# Altium footprint library Connector_Phoenix_GMSTB.PcbLib: 88 footprints (part 4 of 6)
Each footprint in its own frame and in the unit in brackets; x right, y up, seen from the top. Pads: shape width x height; smd on the part's side, far side on the other; paste and mask are expansions set on the pad; w line width, h text height; cw(c..) or ccw(c..) is an arc to the next point about the centre after c.
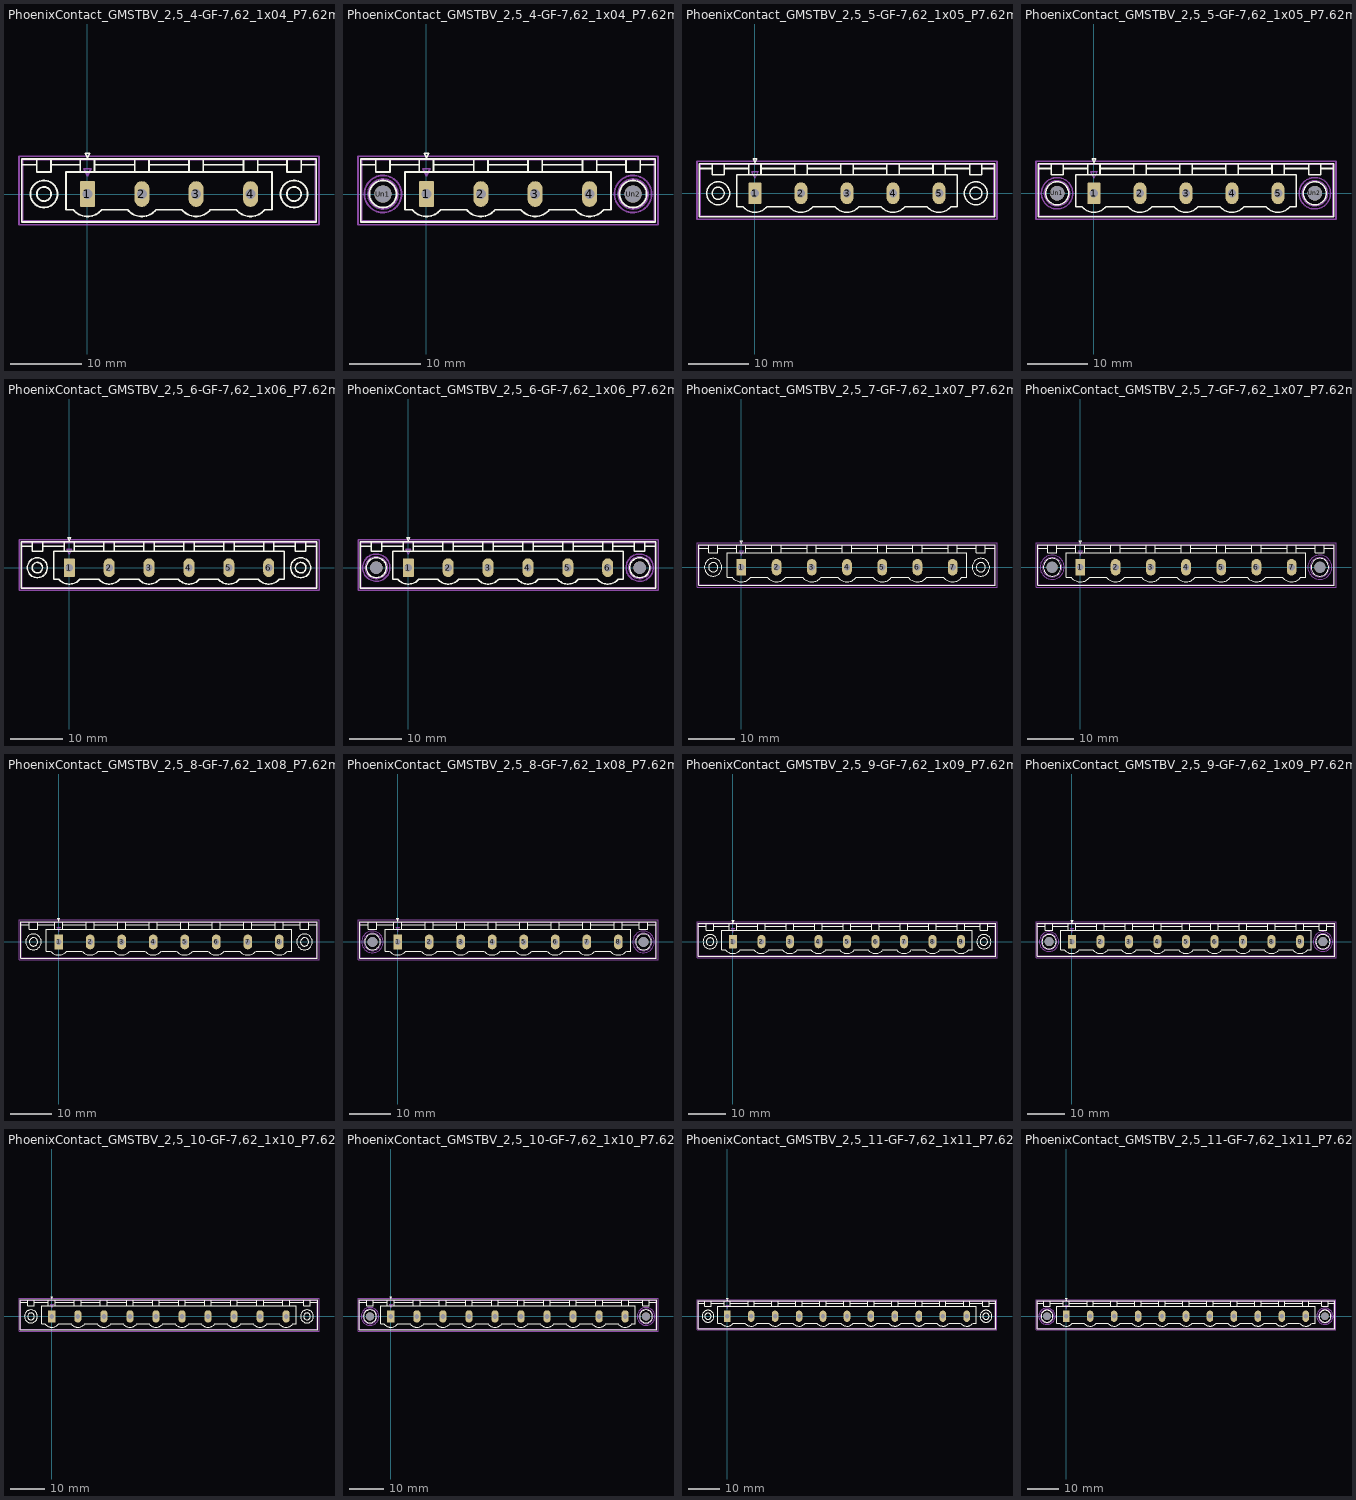
[diagram p3: the footprints below, top view; thin cyan lines are the x and y axes]

## PhoenixContact_GMSTBV_2,5_4-GF-7,62_1x04_P7.62mm_Vertical_ThreadedFlange [mm]
pads (4):
  rrect12% 2.1x3.6 hole 1.4: 1(0,0)
  rrect100% 2.1x3.6 hole 1.4: 2(7.62,0) 3(15.24,0) 4(22.86,0)
F.SilkS:
  circle w0.254: c28.96,0 r1.9
  circle w0.254: c28.96,0 r1
  circle w0.254: c-6.1,0 r1.9
  circle w0.254: c-6.1,0 r1
  lines w0.254: -9.21,4.1 -7.21,4.1 ; -5.1,4.1 -1,4.1 ; 1,4.1 6.62,4.1 ; 1.987,-2.216 cw(c0,-0.55) -2,-2.2 -3.01,-2.2 -3.01,3.1 25.87,3.1 25.87,-2.2 24.86,-2.2 ; 2,-2.2 5.62,-2.2 ccw(c7.62,-0.55) 9.607,-2.216 ; 8.62,4.1 14.24,4.1 ; 9.62,-2.2 13.24,-2.2 ccw(c15.24,-0.55) 17.227,-2.216 ; 16.24,4.1 21.86,4.1 ; 17.24,-2.2 20.86,-2.2 ccw(c22.86,-0.55) 24.847,-2.216 ; 23.86,4.1 27.96,4.1 ; 30.07,4.1 32.07,4.1 ; -9.21,-3.91 32.07,-3.91 32.07,4.91 -9.21,4.91 -9.21,-3.91 ; -7.1,3.1 -5.1,3.1 -5.1,4.91 -7.1,4.91 -7.1,3.1 ; -1,3.1 1,3.1 1,4.91 -1,4.91 -1,3.1 ; -0.3,5.71 0,5.11 0.3,5.71 -0.3,5.71 ; 6.62,3.1 8.62,3.1 8.62,4.91 6.62,4.91 6.62,3.1 ; 14.24,3.1 16.24,3.1 16.24,4.91 14.24,4.91 14.24,3.1 ; 21.86,3.1 23.86,3.1 23.86,4.91 21.86,4.91 21.86,3.1 ; 27.96,3.1 29.96,3.1 29.96,4.91 27.96,4.91 27.96,3.1
Top Assembly:
  lines w0.254: -9.1,-3.8 31.96,-3.8 31.96,4.8 -9.1,4.8 -9.1,-3.8 ; -0.5,3.55 0,2.55 0.5,3.55 -0.5,3.55
  text "'.Designator'" at 7.383,3.26 h1
Top Courtyard:
  lines w0.254: -9.6,-4.3 32.46,-4.3 32.46,5.3 -9.6,5.3 -9.6,-4.3
Top Designator:
  text ".Designator" at 3.812,0.197 h1.52

## PhoenixContact_GMSTBV_2,5_4-GF-7,62_1x04_P7.62mm_Vertical_ThreadedFlange_MountHole [mm]
pads (6):
  rrect12% 2.1x3.6 hole 1.4: 1(0,0)
  rrect100% 2.1x3.6 hole 1.4: 2(7.62,0) 3(15.24,0) 4(22.86,0)
  round 2.4 hole 2.4: Un1(-6.1,0) Un2(28.96,0)
F.SilkS:
  circle w0.254: c28.96,0 r1.9
  circle w0.254: c-6.1,0 r1.9
  lines w0.254: -9.21,4.1 -7.21,4.1 ; -5.1,4.1 -1,4.1 ; 1,4.1 6.62,4.1 ; 1.987,-2.216 cw(c0,-0.55) -2,-2.2 -3.01,-2.2 -3.01,3.1 25.87,3.1 25.87,-2.2 24.86,-2.2 ; 2,-2.2 5.62,-2.2 ccw(c7.62,-0.55) 9.607,-2.216 ; 8.62,4.1 14.24,4.1 ; 9.62,-2.2 13.24,-2.2 ccw(c15.24,-0.55) 17.227,-2.216 ; 16.24,4.1 21.86,4.1 ; 17.24,-2.2 20.86,-2.2 ccw(c22.86,-0.55) 24.847,-2.216 ; 23.86,4.1 27.96,4.1 ; 30.07,4.1 32.07,4.1 ; -9.21,-3.91 32.07,-3.91 32.07,4.91 -9.21,4.91 -9.21,-3.91 ; -7.1,3.1 -5.1,3.1 -5.1,4.91 -7.1,4.91 -7.1,3.1 ; -1,3.1 1,3.1 1,4.91 -1,4.91 -1,3.1 ; -0.3,5.71 0,5.11 0.3,5.71 -0.3,5.71 ; 6.62,3.1 8.62,3.1 8.62,4.91 6.62,4.91 6.62,3.1 ; 14.24,3.1 16.24,3.1 16.24,4.91 14.24,4.91 14.24,3.1 ; 21.86,3.1 23.86,3.1 23.86,4.91 21.86,4.91 21.86,3.1 ; 27.96,3.1 29.96,3.1 29.96,4.91 27.96,4.91 27.96,3.1
B.SilkS:
  circle w0.254: c28.96,0 r2.21
  circle w0.254: c-6.1,0 r2.21
Top Assembly:
  lines w0.254: -9.1,-3.8 31.96,-3.8 31.96,4.8 -9.1,4.8 -9.1,-3.8 ; -0.5,3.55 0,2.55 0.5,3.55 -0.5,3.55
  text "'.Designator'" at 7.383,3.26 h1
Bottom Assembly:
  circle w0.254: c28.96,0 r2.1
  circle w0.254: c-6.1,0 r2.1
Top Courtyard:
  lines w0.254: -9.6,-4.3 32.46,-4.3 32.46,5.3 -9.6,5.3 -9.6,-4.3
Bottom Courtyard:
  circle w0.254: c28.96,0 r2.6
  circle w0.254: c-6.1,0 r2.6
Top Designator:
  text ".Designator" at 3.812,0.197 h1.52

## PhoenixContact_GMSTBV_2,5_5-GF-7,62_1x05_P7.62mm_Vertical_ThreadedFlange [mm]
pads (5):
  rrect12% 2.1x3.6 hole 1.4: 1(0,0)
  rrect100% 2.1x3.6 hole 1.4: 2(7.62,0) 3(15.24,0) 4(22.86,0) 5(30.48,0)
F.SilkS:
  circle w0.254: c36.58,0 r1.9
  circle w0.254: c36.58,0 r1
  circle w0.254: c-6.1,0 r1.9
  circle w0.254: c-6.1,0 r1
  lines w0.254: -9.21,4.1 -7.21,4.1 ; -5.1,4.1 -1,4.1 ; 1,4.1 6.62,4.1 ; 1.987,-2.216 cw(c0,-0.55) -2,-2.2 -3.01,-2.2 -3.01,3.1 33.49,3.1 33.49,-2.2 32.48,-2.2 ; 2,-2.2 5.62,-2.2 ccw(c7.62,-0.55) 9.607,-2.216 ; 8.62,4.1 14.24,4.1 ; 9.62,-2.2 13.24,-2.2 ccw(c15.24,-0.55) 17.227,-2.216 ; 16.24,4.1 21.86,4.1 ; 17.24,-2.2 20.86,-2.2 ccw(c22.86,-0.55) 24.847,-2.216 ; 23.86,4.1 29.48,4.1 ; 24.86,-2.2 28.48,-2.2 ccw(c30.48,-0.55) 32.467,-2.216 ; 31.48,4.1 35.58,4.1 ; 37.69,4.1 39.69,4.1 ; -9.21,-3.91 39.69,-3.91 39.69,4.91 -9.21,4.91 -9.21,-3.91 ; -7.1,3.1 -5.1,3.1 -5.1,4.91 -7.1,4.91 -7.1,3.1 ; -1,3.1 1,3.1 1,4.91 -1,4.91 -1,3.1 ; -0.3,5.71 0,5.11 0.3,5.71 -0.3,5.71 ; 6.62,3.1 8.62,3.1 8.62,4.91 6.62,4.91 6.62,3.1 ; 14.24,3.1 16.24,3.1 16.24,4.91 14.24,4.91 14.24,3.1 ; 21.86,3.1 23.86,3.1 23.86,4.91 21.86,4.91 21.86,3.1 ; 29.48,3.1 31.48,3.1 31.48,4.91 29.48,4.91 29.48,3.1 ; 35.58,3.1 37.58,3.1 37.58,4.91 35.58,4.91 35.58,3.1
Top Assembly:
  lines w0.254: -9.1,-3.8 39.58,-3.8 39.58,4.8 -9.1,4.8 -9.1,-3.8 ; -0.5,3.55 0,2.55 0.5,3.55 -0.5,3.55
  text "'.Designator'" at 11.193,3.26 h1
Top Courtyard:
  lines w0.254: -9.6,-4.3 40.08,-4.3 40.08,5.3 -9.6,5.3 -9.6,-4.3
Top Designator:
  text ".Designator" at 7.622,0.197 h1.52

## PhoenixContact_GMSTBV_2,5_5-GF-7,62_1x05_P7.62mm_Vertical_ThreadedFlange_MountHole [mm]
pads (7):
  rrect12% 2.1x3.6 hole 1.4: 1(0,0)
  rrect100% 2.1x3.6 hole 1.4: 2(7.62,0) 3(15.24,0) 4(22.86,0) 5(30.48,0)
  round 2.4 hole 2.4: Un1(-6.1,0) Un2(36.58,0)
F.SilkS:
  circle w0.254: c36.58,0 r1.9
  circle w0.254: c-6.1,0 r1.9
  lines w0.254: -9.21,4.1 -7.21,4.1 ; -5.1,4.1 -1,4.1 ; 1,4.1 6.62,4.1 ; 1.987,-2.216 cw(c0,-0.55) -2,-2.2 -3.01,-2.2 -3.01,3.1 33.49,3.1 33.49,-2.2 32.48,-2.2 ; 2,-2.2 5.62,-2.2 ccw(c7.62,-0.55) 9.607,-2.216 ; 8.62,4.1 14.24,4.1 ; 9.62,-2.2 13.24,-2.2 ccw(c15.24,-0.55) 17.227,-2.216 ; 16.24,4.1 21.86,4.1 ; 17.24,-2.2 20.86,-2.2 ccw(c22.86,-0.55) 24.847,-2.216 ; 23.86,4.1 29.48,4.1 ; 24.86,-2.2 28.48,-2.2 ccw(c30.48,-0.55) 32.467,-2.216 ; 31.48,4.1 35.58,4.1 ; 37.69,4.1 39.69,4.1 ; -9.21,-3.91 39.69,-3.91 39.69,4.91 -9.21,4.91 -9.21,-3.91 ; -7.1,3.1 -5.1,3.1 -5.1,4.91 -7.1,4.91 -7.1,3.1 ; -1,3.1 1,3.1 1,4.91 -1,4.91 -1,3.1 ; -0.3,5.71 0,5.11 0.3,5.71 -0.3,5.71 ; 6.62,3.1 8.62,3.1 8.62,4.91 6.62,4.91 6.62,3.1 ; 14.24,3.1 16.24,3.1 16.24,4.91 14.24,4.91 14.24,3.1 ; 21.86,3.1 23.86,3.1 23.86,4.91 21.86,4.91 21.86,3.1 ; 29.48,3.1 31.48,3.1 31.48,4.91 29.48,4.91 29.48,3.1 ; 35.58,3.1 37.58,3.1 37.58,4.91 35.58,4.91 35.58,3.1
B.SilkS:
  circle w0.254: c36.58,0 r2.21
  circle w0.254: c-6.1,0 r2.21
Top Assembly:
  lines w0.254: -9.1,-3.8 39.58,-3.8 39.58,4.8 -9.1,4.8 -9.1,-3.8 ; -0.5,3.55 0,2.55 0.5,3.55 -0.5,3.55
  text "'.Designator'" at 11.193,3.26 h1
Bottom Assembly:
  circle w0.254: c36.58,0 r2.1
  circle w0.254: c-6.1,0 r2.1
Top Courtyard:
  lines w0.254: -9.6,-4.3 40.08,-4.3 40.08,5.3 -9.6,5.3 -9.6,-4.3
Bottom Courtyard:
  circle w0.254: c36.58,0 r2.6
  circle w0.254: c-6.1,0 r2.6
Top Designator:
  text ".Designator" at 7.622,0.197 h1.52

## PhoenixContact_GMSTBV_2,5_6-GF-7,62_1x06_P7.62mm_Vertical_ThreadedFlange [mm]
pads (6):
  rrect12% 2.1x3.6 hole 1.4: 1(0,0)
  rrect100% 2.1x3.6 hole 1.4: 2(7.62,0) 3(15.24,0) 4(22.86,0) 5(30.48,0) 6(38.1,0)
F.SilkS:
  circle w0.254: c44.2,0 r1.9
  circle w0.254: c44.2,0 r1
  circle w0.254: c-6.1,0 r1.9
  circle w0.254: c-6.1,0 r1
  lines w0.254: -9.21,4.1 -7.21,4.1 ; -5.1,4.1 -1,4.1 ; 1,4.1 6.62,4.1 ; 1.987,-2.216 cw(c0,-0.55) -2,-2.2 -3.01,-2.2 -3.01,3.1 41.11,3.1 41.11,-2.2 40.1,-2.2 ; 2,-2.2 5.62,-2.2 ccw(c7.62,-0.55) 9.607,-2.216 ; 8.62,4.1 14.24,4.1 ; 9.62,-2.2 13.24,-2.2 ccw(c15.24,-0.55) 17.227,-2.216 ; 16.24,4.1 21.86,4.1 ; 17.24,-2.2 20.86,-2.2 ccw(c22.86,-0.55) 24.847,-2.216 ; 23.86,4.1 29.48,4.1 ; 24.86,-2.2 28.48,-2.2 ccw(c30.48,-0.55) 32.467,-2.216 ; 31.48,4.1 37.1,4.1 ; 32.48,-2.2 36.1,-2.2 ccw(c38.1,-0.55) 40.087,-2.216 ; 39.1,4.1 43.2,4.1 ; 45.31,4.1 47.31,4.1 ; -9.21,-3.91 47.31,-3.91 47.31,4.91 -9.21,4.91 -9.21,-3.91 ; -7.1,3.1 -5.1,3.1 -5.1,4.91 -7.1,4.91 -7.1,3.1 ; -1,3.1 1,3.1 1,4.91 -1,4.91 -1,3.1 ; -0.3,5.71 0,5.11 0.3,5.71 -0.3,5.71 ; 6.62,3.1 8.62,3.1 8.62,4.91 6.62,4.91 6.62,3.1 ; 14.24,3.1 16.24,3.1 16.24,4.91 14.24,4.91 14.24,3.1 ; 21.86,3.1 23.86,3.1 23.86,4.91 21.86,4.91 21.86,3.1 ; 29.48,3.1 31.48,3.1 31.48,4.91 29.48,4.91 29.48,3.1 ; 37.1,3.1 39.1,3.1 39.1,4.91 37.1,4.91 37.1,3.1 ; 43.2,3.1 45.2,3.1 45.2,4.91 43.2,4.91 43.2,3.1
Top Assembly:
  lines w0.254: -9.1,-3.8 47.2,-3.8 47.2,4.8 -9.1,4.8 -9.1,-3.8 ; -0.5,3.55 0,2.55 0.5,3.55 -0.5,3.55
  text "'.Designator'" at 15.003,3.26 h1
Top Courtyard:
  lines w0.254: -9.6,-4.3 47.7,-4.3 47.7,5.3 -9.6,5.3 -9.6,-4.3
Top Designator:
  text ".Designator" at 11.432,0.197 h1.52

## PhoenixContact_GMSTBV_2,5_6-GF-7,62_1x06_P7.62mm_Vertical_ThreadedFlange_MountHole [mm]
pads (8):
  rrect12% 2.1x3.6 hole 1.4: 1(0,0)
  rrect100% 2.1x3.6 hole 1.4: 2(7.62,0) 3(15.24,0) 4(22.86,0) 5(30.48,0) 6(38.1,0)
  round 2.4 hole 2.4: Un1(-6.1,0) Un2(44.2,0)
F.SilkS:
  circle w0.254: c44.2,0 r1.9
  circle w0.254: c-6.1,0 r1.9
  lines w0.254: -9.21,4.1 -7.21,4.1 ; -5.1,4.1 -1,4.1 ; 1,4.1 6.62,4.1 ; 1.987,-2.216 cw(c0,-0.55) -2,-2.2 -3.01,-2.2 -3.01,3.1 41.11,3.1 41.11,-2.2 40.1,-2.2 ; 2,-2.2 5.62,-2.2 ccw(c7.62,-0.55) 9.607,-2.216 ; 8.62,4.1 14.24,4.1 ; 9.62,-2.2 13.24,-2.2 ccw(c15.24,-0.55) 17.227,-2.216 ; 16.24,4.1 21.86,4.1 ; 17.24,-2.2 20.86,-2.2 ccw(c22.86,-0.55) 24.847,-2.216 ; 23.86,4.1 29.48,4.1 ; 24.86,-2.2 28.48,-2.2 ccw(c30.48,-0.55) 32.467,-2.216 ; 31.48,4.1 37.1,4.1 ; 32.48,-2.2 36.1,-2.2 ccw(c38.1,-0.55) 40.087,-2.216 ; 39.1,4.1 43.2,4.1 ; 45.31,4.1 47.31,4.1 ; -9.21,-3.91 47.31,-3.91 47.31,4.91 -9.21,4.91 -9.21,-3.91 ; -7.1,3.1 -5.1,3.1 -5.1,4.91 -7.1,4.91 -7.1,3.1 ; -1,3.1 1,3.1 1,4.91 -1,4.91 -1,3.1 ; -0.3,5.71 0,5.11 0.3,5.71 -0.3,5.71 ; 6.62,3.1 8.62,3.1 8.62,4.91 6.62,4.91 6.62,3.1 ; 14.24,3.1 16.24,3.1 16.24,4.91 14.24,4.91 14.24,3.1 ; 21.86,3.1 23.86,3.1 23.86,4.91 21.86,4.91 21.86,3.1 ; 29.48,3.1 31.48,3.1 31.48,4.91 29.48,4.91 29.48,3.1 ; 37.1,3.1 39.1,3.1 39.1,4.91 37.1,4.91 37.1,3.1 ; 43.2,3.1 45.2,3.1 45.2,4.91 43.2,4.91 43.2,3.1
B.SilkS:
  circle w0.254: c44.2,0 r2.21
  circle w0.254: c-6.1,0 r2.21
Top Assembly:
  lines w0.254: -9.1,-3.8 47.2,-3.8 47.2,4.8 -9.1,4.8 -9.1,-3.8 ; -0.5,3.55 0,2.55 0.5,3.55 -0.5,3.55
  text "'.Designator'" at 15.003,3.26 h1
Bottom Assembly:
  circle w0.254: c44.2,0 r2.1
  circle w0.254: c-6.1,0 r2.1
Top Courtyard:
  lines w0.254: -9.6,-4.3 47.7,-4.3 47.7,5.3 -9.6,5.3 -9.6,-4.3
Bottom Courtyard:
  circle w0.254: c44.2,0 r2.6
  circle w0.254: c-6.1,0 r2.6
Top Designator:
  text ".Designator" at 11.432,0.197 h1.52

## PhoenixContact_GMSTBV_2,5_7-GF-7,62_1x07_P7.62mm_Vertical_ThreadedFlange [mm]
pads (7):
  rrect12% 2.1x3.6 hole 1.4: 1(0,0)
  rrect100% 2.1x3.6 hole 1.4: 2(7.62,0) 3(15.24,0) 4(22.86,0) 5(30.48,0) 6(38.1,0) 7(45.72,0)
F.SilkS:
  circle w0.254: c51.82,0 r1.9
  circle w0.254: c51.82,0 r1
  circle w0.254: c-6.1,0 r1.9
  circle w0.254: c-6.1,0 r1
  lines w0.254: -9.21,4.1 -7.21,4.1 ; -5.1,4.1 -1,4.1 ; 1,4.1 6.62,4.1 ; 1.987,-2.216 cw(c0,-0.55) -2,-2.2 -3.01,-2.2 -3.01,3.1 48.73,3.1 48.73,-2.2 47.72,-2.2 ; 2,-2.2 5.62,-2.2 ccw(c7.62,-0.55) 9.607,-2.216 ; 8.62,4.1 14.24,4.1 ; 9.62,-2.2 13.24,-2.2 ccw(c15.24,-0.55) 17.227,-2.216 ; 16.24,4.1 21.86,4.1 ; 17.24,-2.2 20.86,-2.2 ccw(c22.86,-0.55) 24.847,-2.216 ; 23.86,4.1 29.48,4.1 ; 24.86,-2.2 28.48,-2.2 ccw(c30.48,-0.55) 32.467,-2.216 ; 31.48,4.1 37.1,4.1 ; 32.48,-2.2 36.1,-2.2 ccw(c38.1,-0.55) 40.087,-2.216 ; 39.1,4.1 44.72,4.1 ; 40.1,-2.2 43.72,-2.2 ccw(c45.72,-0.55) 47.707,-2.216 ; 46.72,4.1 50.82,4.1 ; 52.93,4.1 54.93,4.1 ; -9.21,-3.91 54.93,-3.91 54.93,4.91 -9.21,4.91 -9.21,-3.91 ; -7.1,3.1 -5.1,3.1 -5.1,4.91 -7.1,4.91 -7.1,3.1 ; -1,3.1 1,3.1 1,4.91 -1,4.91 -1,3.1 ; -0.3,5.71 0,5.11 0.3,5.71 -0.3,5.71 ; 6.62,3.1 8.62,3.1 8.62,4.91 6.62,4.91 6.62,3.1 ; 14.24,3.1 16.24,3.1 16.24,4.91 14.24,4.91 14.24,3.1 ; 21.86,3.1 23.86,3.1 23.86,4.91 21.86,4.91 21.86,3.1 ; 29.48,3.1 31.48,3.1 31.48,4.91 29.48,4.91 29.48,3.1 ; 37.1,3.1 39.1,3.1 39.1,4.91 37.1,4.91 37.1,3.1 ; 44.72,3.1 46.72,3.1 46.72,4.91 44.72,4.91 44.72,3.1 ; 50.82,3.1 52.82,3.1 52.82,4.91 50.82,4.91 50.82,3.1
Top Assembly:
  lines w0.254: -9.1,-3.8 54.82,-3.8 54.82,4.8 -9.1,4.8 -9.1,-3.8 ; -0.5,3.55 0,2.55 0.5,3.55 -0.5,3.55
  text "'.Designator'" at 18.813,3.26 h1
Top Courtyard:
  lines w0.254: -9.6,-4.3 55.32,-4.3 55.32,5.3 -9.6,5.3 -9.6,-4.3
Top Designator:
  text ".Designator" at 15.242,0.197 h1.52

## PhoenixContact_GMSTBV_2,5_7-GF-7,62_1x07_P7.62mm_Vertical_ThreadedFlange_MountHole [mm]
pads (9):
  rrect12% 2.1x3.6 hole 1.4: 1(0,0)
  rrect100% 2.1x3.6 hole 1.4: 2(7.62,0) 3(15.24,0) 4(22.86,0) 5(30.48,0) 6(38.1,0) 7(45.72,0)
  round 2.4 hole 2.4: Un1(-6.1,0) Un2(51.82,0)
F.SilkS:
  circle w0.254: c51.82,0 r1.9
  circle w0.254: c-6.1,0 r1.9
  lines w0.254: -9.21,4.1 -7.21,4.1 ; -5.1,4.1 -1,4.1 ; 1,4.1 6.62,4.1 ; 1.987,-2.216 cw(c0,-0.55) -2,-2.2 -3.01,-2.2 -3.01,3.1 48.73,3.1 48.73,-2.2 47.72,-2.2 ; 2,-2.2 5.62,-2.2 ccw(c7.62,-0.55) 9.607,-2.216 ; 8.62,4.1 14.24,4.1 ; 9.62,-2.2 13.24,-2.2 ccw(c15.24,-0.55) 17.227,-2.216 ; 16.24,4.1 21.86,4.1 ; 17.24,-2.2 20.86,-2.2 ccw(c22.86,-0.55) 24.847,-2.216 ; 23.86,4.1 29.48,4.1 ; 24.86,-2.2 28.48,-2.2 ccw(c30.48,-0.55) 32.467,-2.216 ; 31.48,4.1 37.1,4.1 ; 32.48,-2.2 36.1,-2.2 ccw(c38.1,-0.55) 40.087,-2.216 ; 39.1,4.1 44.72,4.1 ; 40.1,-2.2 43.72,-2.2 ccw(c45.72,-0.55) 47.707,-2.216 ; 46.72,4.1 50.82,4.1 ; 52.93,4.1 54.93,4.1 ; -9.21,-3.91 54.93,-3.91 54.93,4.91 -9.21,4.91 -9.21,-3.91 ; -7.1,3.1 -5.1,3.1 -5.1,4.91 -7.1,4.91 -7.1,3.1 ; -1,3.1 1,3.1 1,4.91 -1,4.91 -1,3.1 ; -0.3,5.71 0,5.11 0.3,5.71 -0.3,5.71 ; 6.62,3.1 8.62,3.1 8.62,4.91 6.62,4.91 6.62,3.1 ; 14.24,3.1 16.24,3.1 16.24,4.91 14.24,4.91 14.24,3.1 ; 21.86,3.1 23.86,3.1 23.86,4.91 21.86,4.91 21.86,3.1 ; 29.48,3.1 31.48,3.1 31.48,4.91 29.48,4.91 29.48,3.1 ; 37.1,3.1 39.1,3.1 39.1,4.91 37.1,4.91 37.1,3.1 ; 44.72,3.1 46.72,3.1 46.72,4.91 44.72,4.91 44.72,3.1 ; 50.82,3.1 52.82,3.1 52.82,4.91 50.82,4.91 50.82,3.1
B.SilkS:
  circle w0.254: c51.82,0 r2.21
  circle w0.254: c-6.1,0 r2.21
Top Assembly:
  lines w0.254: -9.1,-3.8 54.82,-3.8 54.82,4.8 -9.1,4.8 -9.1,-3.8 ; -0.5,3.55 0,2.55 0.5,3.55 -0.5,3.55
  text "'.Designator'" at 18.813,3.26 h1
Bottom Assembly:
  circle w0.254: c51.82,0 r2.1
  circle w0.254: c-6.1,0 r2.1
Top Courtyard:
  lines w0.254: -9.6,-4.3 55.32,-4.3 55.32,5.3 -9.6,5.3 -9.6,-4.3
Bottom Courtyard:
  circle w0.254: c51.82,0 r2.6
  circle w0.254: c-6.1,0 r2.6
Top Designator:
  text ".Designator" at 15.242,0.197 h1.52

## PhoenixContact_GMSTBV_2,5_8-GF-7,62_1x08_P7.62mm_Vertical_ThreadedFlange [mm]
pads (8):
  rrect12% 2.1x3.6 hole 1.4: 1(0,0)
  rrect100% 2.1x3.6 hole 1.4: 2(7.62,0) 3(15.24,0) 4(22.86,0) 5(30.48,0) 6(38.1,0) 7(45.72,0) 8(53.34,0)
F.SilkS:
  circle w0.254: c59.44,0 r1.9
  circle w0.254: c59.44,0 r1
  circle w0.254: c-6.1,0 r1.9
  circle w0.254: c-6.1,0 r1
  lines w0.254: -9.21,4.1 -7.21,4.1 ; -5.1,4.1 -1,4.1 ; 1,4.1 6.62,4.1 ; 1.987,-2.216 cw(c0,-0.55) -2,-2.2 -3.01,-2.2 -3.01,3.1 56.35,3.1 56.35,-2.2 55.34,-2.2 ; 2,-2.2 5.62,-2.2 ccw(c7.62,-0.55) 9.607,-2.216 ; 8.62,4.1 14.24,4.1 ; 9.62,-2.2 13.24,-2.2 ccw(c15.24,-0.55) 17.227,-2.216 ; 16.24,4.1 21.86,4.1 ; 17.24,-2.2 20.86,-2.2 ccw(c22.86,-0.55) 24.847,-2.216 ; 23.86,4.1 29.48,4.1 ; 24.86,-2.2 28.48,-2.2 ccw(c30.48,-0.55) 32.467,-2.216 ; 31.48,4.1 37.1,4.1 ; 32.48,-2.2 36.1,-2.2 ccw(c38.1,-0.55) 40.087,-2.216 ; 39.1,4.1 44.72,4.1 ; 40.1,-2.2 43.72,-2.2 ccw(c45.72,-0.55) 47.707,-2.216 ; 46.72,4.1 52.34,4.1 ; 47.72,-2.2 51.34,-2.2 ccw(c53.34,-0.55) 55.327,-2.216 ; 54.34,4.1 58.44,4.1 ; 60.55,4.1 62.55,4.1 ; -9.21,-3.91 62.55,-3.91 62.55,4.91 -9.21,4.91 -9.21,-3.91 ; -7.1,3.1 -5.1,3.1 -5.1,4.91 -7.1,4.91 -7.1,3.1 ; -1,3.1 1,3.1 1,4.91 -1,4.91 -1,3.1 ; -0.3,5.71 0,5.11 0.3,5.71 -0.3,5.71 ; 6.62,3.1 8.62,3.1 8.62,4.91 6.62,4.91 6.62,3.1 ; 14.24,3.1 16.24,3.1 16.24,4.91 14.24,4.91 14.24,3.1 ; 21.86,3.1 23.86,3.1 23.86,4.91 21.86,4.91 21.86,3.1 ; 29.48,3.1 31.48,3.1 31.48,4.91 29.48,4.91 29.48,3.1 ; 37.1,3.1 39.1,3.1 39.1,4.91 37.1,4.91 37.1,3.1 ; 44.72,3.1 46.72,3.1 46.72,4.91 44.72,4.91 44.72,3.1 ; 52.34,3.1 54.34,3.1 54.34,4.91 52.34,4.91 52.34,3.1 ; 58.44,3.1 60.44,3.1 60.44,4.91 58.44,4.91 58.44,3.1
Top Assembly:
  lines w0.254: -9.1,-3.8 62.44,-3.8 62.44,4.8 -9.1,4.8 -9.1,-3.8 ; -0.5,3.55 0,2.55 0.5,3.55 -0.5,3.55
  text "'.Designator'" at 22.623,3.26 h1
Top Courtyard:
  lines w0.254: -9.6,-4.3 62.94,-4.3 62.94,5.3 -9.6,5.3 -9.6,-4.3
Top Designator:
  text ".Designator" at 19.052,0.197 h1.52

## PhoenixContact_GMSTBV_2,5_8-GF-7,62_1x08_P7.62mm_Vertical_ThreadedFlange_MountHole [mm]
pads (10):
  rrect12% 2.1x3.6 hole 1.4: 1(0,0)
  rrect100% 2.1x3.6 hole 1.4: 2(7.62,0) 3(15.24,0) 4(22.86,0) 5(30.48,0) 6(38.1,0) 7(45.72,0) 8(53.34,0)
  round 2.4 hole 2.4: Un1(-6.1,0) Un2(59.44,0)
F.SilkS:
  circle w0.254: c59.44,0 r1.9
  circle w0.254: c-6.1,0 r1.9
  lines w0.254: -9.21,4.1 -7.21,4.1 ; -5.1,4.1 -1,4.1 ; 1,4.1 6.62,4.1 ; 1.987,-2.216 cw(c0,-0.55) -2,-2.2 -3.01,-2.2 -3.01,3.1 56.35,3.1 56.35,-2.2 55.34,-2.2 ; 2,-2.2 5.62,-2.2 ccw(c7.62,-0.55) 9.607,-2.216 ; 8.62,4.1 14.24,4.1 ; 9.62,-2.2 13.24,-2.2 ccw(c15.24,-0.55) 17.227,-2.216 ; 16.24,4.1 21.86,4.1 ; 17.24,-2.2 20.86,-2.2 ccw(c22.86,-0.55) 24.847,-2.216 ; 23.86,4.1 29.48,4.1 ; 24.86,-2.2 28.48,-2.2 ccw(c30.48,-0.55) 32.467,-2.216 ; 31.48,4.1 37.1,4.1 ; 32.48,-2.2 36.1,-2.2 ccw(c38.1,-0.55) 40.087,-2.216 ; 39.1,4.1 44.72,4.1 ; 40.1,-2.2 43.72,-2.2 ccw(c45.72,-0.55) 47.707,-2.216 ; 46.72,4.1 52.34,4.1 ; 47.72,-2.2 51.34,-2.2 ccw(c53.34,-0.55) 55.327,-2.216 ; 54.34,4.1 58.44,4.1 ; 60.55,4.1 62.55,4.1 ; -9.21,-3.91 62.55,-3.91 62.55,4.91 -9.21,4.91 -9.21,-3.91 ; -7.1,3.1 -5.1,3.1 -5.1,4.91 -7.1,4.91 -7.1,3.1 ; -1,3.1 1,3.1 1,4.91 -1,4.91 -1,3.1 ; -0.3,5.71 0,5.11 0.3,5.71 -0.3,5.71 ; 6.62,3.1 8.62,3.1 8.62,4.91 6.62,4.91 6.62,3.1 ; 14.24,3.1 16.24,3.1 16.24,4.91 14.24,4.91 14.24,3.1 ; 21.86,3.1 23.86,3.1 23.86,4.91 21.86,4.91 21.86,3.1 ; 29.48,3.1 31.48,3.1 31.48,4.91 29.48,4.91 29.48,3.1 ; 37.1,3.1 39.1,3.1 39.1,4.91 37.1,4.91 37.1,3.1 ; 44.72,3.1 46.72,3.1 46.72,4.91 44.72,4.91 44.72,3.1 ; 52.34,3.1 54.34,3.1 54.34,4.91 52.34,4.91 52.34,3.1 ; 58.44,3.1 60.44,3.1 60.44,4.91 58.44,4.91 58.44,3.1
B.SilkS:
  circle w0.254: c59.44,0 r2.21
  circle w0.254: c-6.1,0 r2.21
Top Assembly:
  lines w0.254: -9.1,-3.8 62.44,-3.8 62.44,4.8 -9.1,4.8 -9.1,-3.8 ; -0.5,3.55 0,2.55 0.5,3.55 -0.5,3.55
  text "'.Designator'" at 22.623,3.26 h1
Bottom Assembly:
  circle w0.254: c59.44,0 r2.1
  circle w0.254: c-6.1,0 r2.1
Top Courtyard:
  lines w0.254: -9.6,-4.3 62.94,-4.3 62.94,5.3 -9.6,5.3 -9.6,-4.3
Bottom Courtyard:
  circle w0.254: c59.44,0 r2.6
  circle w0.254: c-6.1,0 r2.6
Top Designator:
  text ".Designator" at 19.052,0.197 h1.52

## PhoenixContact_GMSTBV_2,5_9-GF-7,62_1x09_P7.62mm_Vertical_ThreadedFlange [mm]
pads (9):
  rrect12% 2.1x3.6 hole 1.4: 1(0,0)
  rrect100% 2.1x3.6 hole 1.4: 2(7.62,0) 3(15.24,0) 4(22.86,0) 5(30.48,0) 6(38.1,0) 7(45.72,0) 8(53.34,0) 9(60.96,0)
F.SilkS:
  circle w0.254: c67.06,0 r1.9
  circle w0.254: c67.06,0 r1
  circle w0.254: c-6.1,0 r1.9
  circle w0.254: c-6.1,0 r1
  lines w0.254: -9.21,4.1 -7.21,4.1 ; -5.1,4.1 -1,4.1 ; 1,4.1 6.62,4.1 ; 1.987,-2.216 cw(c0,-0.55) -2,-2.2 -3.01,-2.2 -3.01,3.1 63.97,3.1 63.97,-2.2 62.96,-2.2 ; 2,-2.2 5.62,-2.2 ccw(c7.62,-0.55) 9.607,-2.216 ; 8.62,4.1 14.24,4.1 ; 9.62,-2.2 13.24,-2.2 ccw(c15.24,-0.55) 17.227,-2.216 ; 16.24,4.1 21.86,4.1 ; 17.24,-2.2 20.86,-2.2 ccw(c22.86,-0.55) 24.847,-2.216 ; 23.86,4.1 29.48,4.1 ; 24.86,-2.2 28.48,-2.2 ccw(c30.48,-0.55) 32.467,-2.216 ; 31.48,4.1 37.1,4.1 ; 32.48,-2.2 36.1,-2.2 ccw(c38.1,-0.55) 40.087,-2.216 ; 39.1,4.1 44.72,4.1 ; 40.1,-2.2 43.72,-2.2 ccw(c45.72,-0.55) 47.707,-2.216 ; 46.72,4.1 52.34,4.1 ; 47.72,-2.2 51.34,-2.2 ccw(c53.34,-0.55) 55.327,-2.216 ; 54.34,4.1 59.96,4.1 ; 55.34,-2.2 58.96,-2.2 ccw(c60.96,-0.55) 62.947,-2.216 ; 61.96,4.1 66.06,4.1 ; 68.17,4.1 70.17,4.1 ; -9.21,-3.91 70.17,-3.91 70.17,4.91 -9.21,4.91 -9.21,-3.91 ; -7.1,3.1 -5.1,3.1 -5.1,4.91 -7.1,4.91 -7.1,3.1 ; -1,3.1 1,3.1 1,4.91 -1,4.91 -1,3.1 ; -0.3,5.71 0,5.11 0.3,5.71 -0.3,5.71 ; 6.62,3.1 8.62,3.1 8.62,4.91 6.62,4.91 6.62,3.1 ; 14.24,3.1 16.24,3.1 16.24,4.91 14.24,4.91 14.24,3.1 ; 21.86,3.1 23.86,3.1 23.86,4.91 21.86,4.91 21.86,3.1 ; 29.48,3.1 31.48,3.1 31.48,4.91 29.48,4.91 29.48,3.1 ; 37.1,3.1 39.1,3.1 39.1,4.91 37.1,4.91 37.1,3.1 ; 44.72,3.1 46.72,3.1 46.72,4.91 44.72,4.91 44.72,3.1 ; 52.34,3.1 54.34,3.1 54.34,4.91 52.34,4.91 52.34,3.1 ; 59.96,3.1 61.96,3.1 61.96,4.91 59.96,4.91 59.96,3.1 ; 66.06,3.1 68.06,3.1 68.06,4.91 66.06,4.91 66.06,3.1
Top Assembly:
  lines w0.254: -9.1,-3.8 70.06,-3.8 70.06,4.8 -9.1,4.8 -9.1,-3.8 ; -0.5,3.55 0,2.55 0.5,3.55 -0.5,3.55
  text "'.Designator'" at 26.433,3.26 h1
Top Courtyard:
  lines w0.254: -9.6,-4.3 70.56,-4.3 70.56,5.3 -9.6,5.3 -9.6,-4.3
Top Designator:
  text ".Designator" at 22.862,0.197 h1.52

## PhoenixContact_GMSTBV_2,5_9-GF-7,62_1x09_P7.62mm_Vertical_ThreadedFlange_MountHole [mm]
pads (11):
  rrect12% 2.1x3.6 hole 1.4: 1(0,0)
  rrect100% 2.1x3.6 hole 1.4: 2(7.62,0) 3(15.24,0) 4(22.86,0) 5(30.48,0) 6(38.1,0) 7(45.72,0) 8(53.34,0) 9(60.96,0)
  round 2.4 hole 2.4: Un1(-6.1,0) Un2(67.06,0)
F.SilkS:
  circle w0.254: c67.06,0 r1.9
  circle w0.254: c-6.1,0 r1.9
  lines w0.254: -9.21,4.1 -7.21,4.1 ; -5.1,4.1 -1,4.1 ; 1,4.1 6.62,4.1 ; 1.987,-2.216 cw(c0,-0.55) -2,-2.2 -3.01,-2.2 -3.01,3.1 63.97,3.1 63.97,-2.2 62.96,-2.2 ; 2,-2.2 5.62,-2.2 ccw(c7.62,-0.55) 9.607,-2.216 ; 8.62,4.1 14.24,4.1 ; 9.62,-2.2 13.24,-2.2 ccw(c15.24,-0.55) 17.227,-2.216 ; 16.24,4.1 21.86,4.1 ; 17.24,-2.2 20.86,-2.2 ccw(c22.86,-0.55) 24.847,-2.216 ; 23.86,4.1 29.48,4.1 ; 24.86,-2.2 28.48,-2.2 ccw(c30.48,-0.55) 32.467,-2.216 ; 31.48,4.1 37.1,4.1 ; 32.48,-2.2 36.1,-2.2 ccw(c38.1,-0.55) 40.087,-2.216 ; 39.1,4.1 44.72,4.1 ; 40.1,-2.2 43.72,-2.2 ccw(c45.72,-0.55) 47.707,-2.216 ; 46.72,4.1 52.34,4.1 ; 47.72,-2.2 51.34,-2.2 ccw(c53.34,-0.55) 55.327,-2.216 ; 54.34,4.1 59.96,4.1 ; 55.34,-2.2 58.96,-2.2 ccw(c60.96,-0.55) 62.947,-2.216 ; 61.96,4.1 66.06,4.1 ; 68.17,4.1 70.17,4.1 ; -9.21,-3.91 70.17,-3.91 70.17,4.91 -9.21,4.91 -9.21,-3.91 ; -7.1,3.1 -5.1,3.1 -5.1,4.91 -7.1,4.91 -7.1,3.1 ; -1,3.1 1,3.1 1,4.91 -1,4.91 -1,3.1 ; -0.3,5.71 0,5.11 0.3,5.71 -0.3,5.71 ; 6.62,3.1 8.62,3.1 8.62,4.91 6.62,4.91 6.62,3.1 ; 14.24,3.1 16.24,3.1 16.24,4.91 14.24,4.91 14.24,3.1 ; 21.86,3.1 23.86,3.1 23.86,4.91 21.86,4.91 21.86,3.1 ; 29.48,3.1 31.48,3.1 31.48,4.91 29.48,4.91 29.48,3.1 ; 37.1,3.1 39.1,3.1 39.1,4.91 37.1,4.91 37.1,3.1 ; 44.72,3.1 46.72,3.1 46.72,4.91 44.72,4.91 44.72,3.1 ; 52.34,3.1 54.34,3.1 54.34,4.91 52.34,4.91 52.34,3.1 ; 59.96,3.1 61.96,3.1 61.96,4.91 59.96,4.91 59.96,3.1 ; 66.06,3.1 68.06,3.1 68.06,4.91 66.06,4.91 66.06,3.1
B.SilkS:
  circle w0.254: c67.06,0 r2.21
  circle w0.254: c-6.1,0 r2.21
Top Assembly:
  lines w0.254: -9.1,-3.8 70.06,-3.8 70.06,4.8 -9.1,4.8 -9.1,-3.8 ; -0.5,3.55 0,2.55 0.5,3.55 -0.5,3.55
  text "'.Designator'" at 26.433,3.26 h1
Bottom Assembly:
  circle w0.254: c67.06,0 r2.1
  circle w0.254: c-6.1,0 r2.1
Top Courtyard:
  lines w0.254: -9.6,-4.3 70.56,-4.3 70.56,5.3 -9.6,5.3 -9.6,-4.3
Bottom Courtyard:
  circle w0.254: c67.06,0 r2.6
  circle w0.254: c-6.1,0 r2.6
Top Designator:
  text ".Designator" at 22.862,0.197 h1.52

## PhoenixContact_GMSTBV_2,5_10-GF-7,62_1x10_P7.62mm_Vertical_ThreadedFlange [mm]
pads (10):
  rrect12% 2.1x3.6 hole 1.4: 1(0,0)
  rrect100% 2.1x3.6 hole 1.4: 2(7.62,0) 3(15.24,0) 4(22.86,0) 5(30.48,0) 6(38.1,0) 7(45.72,0) 8(53.34,0) 9(60.96,0) 10(68.58,0)
F.SilkS:
  circle w0.254: c74.68,0 r1.9
  circle w0.254: c74.68,0 r1
  circle w0.254: c-6.1,0 r1.9
  circle w0.254: c-6.1,0 r1
  lines w0.254: -9.21,4.1 -7.21,4.1 ; -5.1,4.1 -1,4.1 ; 1,4.1 6.62,4.1 ; 1.987,-2.216 cw(c0,-0.55) -2,-2.2 -3.01,-2.2 -3.01,3.1 71.59,3.1 71.59,-2.2 70.58,-2.2 ; 2,-2.2 5.62,-2.2 ccw(c7.62,-0.55) 9.607,-2.216 ; 8.62,4.1 14.24,4.1 ; 9.62,-2.2 13.24,-2.2 ccw(c15.24,-0.55) 17.227,-2.216 ; 16.24,4.1 21.86,4.1 ; 17.24,-2.2 20.86,-2.2 ccw(c22.86,-0.55) 24.847,-2.216 ; 23.86,4.1 29.48,4.1 ; 24.86,-2.2 28.48,-2.2 ccw(c30.48,-0.55) 32.467,-2.216 ; 31.48,4.1 37.1,4.1 ; 32.48,-2.2 36.1,-2.2 ccw(c38.1,-0.55) 40.087,-2.216 ; 39.1,4.1 44.72,4.1 ; 40.1,-2.2 43.72,-2.2 ccw(c45.72,-0.55) 47.707,-2.216 ; 46.72,4.1 52.34,4.1 ; 47.72,-2.2 51.34,-2.2 ccw(c53.34,-0.55) 55.327,-2.216 ; 54.34,4.1 59.96,4.1 ; 55.34,-2.2 58.96,-2.2 ccw(c60.96,-0.55) 62.947,-2.216 ; 61.96,4.1 67.58,4.1 ; 62.96,-2.2 66.58,-2.2 ccw(c68.58,-0.55) 70.567,-2.216 ; 69.58,4.1 73.68,4.1 ; 75.79,4.1 77.79,4.1 ; -9.21,-3.91 77.79,-3.91 77.79,4.91 -9.21,4.91 -9.21,-3.91 ; -7.1,3.1 -5.1,3.1 -5.1,4.91 -7.1,4.91 -7.1,3.1 ; -1,3.1 1,3.1 1,4.91 -1,4.91 -1,3.1 ; -0.3,5.71 0,5.11 0.3,5.71 -0.3,5.71 ; 6.62,3.1 8.62,3.1 8.62,4.91 6.62,4.91 6.62,3.1 ; 14.24,3.1 16.24,3.1 16.24,4.91 14.24,4.91 14.24,3.1 ; 21.86,3.1 23.86,3.1 23.86,4.91 21.86,4.91 21.86,3.1 ; 29.48,3.1 31.48,3.1 31.48,4.91 29.48,4.91 29.48,3.1 ; 37.1,3.1 39.1,3.1 39.1,4.91 37.1,4.91 37.1,3.1 ; 44.72,3.1 46.72,3.1 46.72,4.91 44.72,4.91 44.72,3.1 ; 52.34,3.1 54.34,3.1 54.34,4.91 52.34,4.91 52.34,3.1 ; 59.96,3.1 61.96,3.1 61.96,4.91 59.96,4.91 59.96,3.1 ; 67.58,3.1 69.58,3.1 69.58,4.91 67.58,4.91 67.58,3.1 ; 73.68,3.1 75.68,3.1 75.68,4.91 73.68,4.91 73.68,3.1
Top Assembly:
  lines w0.254: -9.1,-3.8 77.68,-3.8 77.68,4.8 -9.1,4.8 -9.1,-3.8 ; -0.5,3.55 0,2.55 0.5,3.55 -0.5,3.55
  text "'.Designator'" at 30.243,3.26 h1
Top Courtyard:
  lines w0.254: -9.6,-4.3 78.19,-4.3 78.19,5.3 -9.6,5.3 -9.6,-4.3
Top Designator:
  text ".Designator" at 26.677,0.197 h1.52

## PhoenixContact_GMSTBV_2,5_10-GF-7,62_1x10_P7.62mm_Vertical_ThreadedFlange_MountHole [mm]
pads (12):
  rrect12% 2.1x3.6 hole 1.4: 1(0,0)
  rrect100% 2.1x3.6 hole 1.4: 2(7.62,0) 3(15.24,0) 4(22.86,0) 5(30.48,0) 6(38.1,0) 7(45.72,0) 8(53.34,0) 9(60.96,0) 10(68.58,0)
  round 2.4 hole 2.4: Un1(-6.1,0) Un2(74.68,0)
F.SilkS:
  circle w0.254: c74.68,0 r1.9
  circle w0.254: c-6.1,0 r1.9
  lines w0.254: -9.21,4.1 -7.21,4.1 ; -5.1,4.1 -1,4.1 ; 1,4.1 6.62,4.1 ; 1.987,-2.216 cw(c0,-0.55) -2,-2.2 -3.01,-2.2 -3.01,3.1 71.59,3.1 71.59,-2.2 70.58,-2.2 ; 2,-2.2 5.62,-2.2 ccw(c7.62,-0.55) 9.607,-2.216 ; 8.62,4.1 14.24,4.1 ; 9.62,-2.2 13.24,-2.2 ccw(c15.24,-0.55) 17.227,-2.216 ; 16.24,4.1 21.86,4.1 ; 17.24,-2.2 20.86,-2.2 ccw(c22.86,-0.55) 24.847,-2.216 ; 23.86,4.1 29.48,4.1 ; 24.86,-2.2 28.48,-2.2 ccw(c30.48,-0.55) 32.467,-2.216 ; 31.48,4.1 37.1,4.1 ; 32.48,-2.2 36.1,-2.2 ccw(c38.1,-0.55) 40.087,-2.216 ; 39.1,4.1 44.72,4.1 ; 40.1,-2.2 43.72,-2.2 ccw(c45.72,-0.55) 47.707,-2.216 ; 46.72,4.1 52.34,4.1 ; 47.72,-2.2 51.34,-2.2 ccw(c53.34,-0.55) 55.327,-2.216 ; 54.34,4.1 59.96,4.1 ; 55.34,-2.2 58.96,-2.2 ccw(c60.96,-0.55) 62.947,-2.216 ; 61.96,4.1 67.58,4.1 ; 62.96,-2.2 66.58,-2.2 ccw(c68.58,-0.55) 70.567,-2.216 ; 69.58,4.1 73.68,4.1 ; 75.79,4.1 77.79,4.1 ; -9.21,-3.91 77.79,-3.91 77.79,4.91 -9.21,4.91 -9.21,-3.91 ; -7.1,3.1 -5.1,3.1 -5.1,4.91 -7.1,4.91 -7.1,3.1 ; -1,3.1 1,3.1 1,4.91 -1,4.91 -1,3.1 ; -0.3,5.71 0,5.11 0.3,5.71 -0.3,5.71 ; 6.62,3.1 8.62,3.1 8.62,4.91 6.62,4.91 6.62,3.1 ; 14.24,3.1 16.24,3.1 16.24,4.91 14.24,4.91 14.24,3.1 ; 21.86,3.1 23.86,3.1 23.86,4.91 21.86,4.91 21.86,3.1 ; 29.48,3.1 31.48,3.1 31.48,4.91 29.48,4.91 29.48,3.1 ; 37.1,3.1 39.1,3.1 39.1,4.91 37.1,4.91 37.1,3.1 ; 44.72,3.1 46.72,3.1 46.72,4.91 44.72,4.91 44.72,3.1 ; 52.34,3.1 54.34,3.1 54.34,4.91 52.34,4.91 52.34,3.1 ; 59.96,3.1 61.96,3.1 61.96,4.91 59.96,4.91 59.96,3.1 ; 67.58,3.1 69.58,3.1 69.58,4.91 67.58,4.91 67.58,3.1 ; 73.68,3.1 75.68,3.1 75.68,4.91 73.68,4.91 73.68,3.1
B.SilkS:
  circle w0.254: c74.68,0 r2.21
  circle w0.254: c-6.1,0 r2.21
Top Assembly:
  lines w0.254: -9.1,-3.8 77.68,-3.8 77.68,4.8 -9.1,4.8 -9.1,-3.8 ; -0.5,3.55 0,2.55 0.5,3.55 -0.5,3.55
  text "'.Designator'" at 30.243,3.26 h1
Bottom Assembly:
  circle w0.254: c74.68,0 r2.1
  circle w0.254: c-6.1,0 r2.1
Top Courtyard:
  lines w0.254: -9.6,-4.3 78.19,-4.3 78.19,5.3 -9.6,5.3 -9.6,-4.3
Bottom Courtyard:
  circle w0.254: c74.68,0 r2.6
  circle w0.254: c-6.1,0 r2.6
Top Designator:
  text ".Designator" at 26.677,0.197 h1.52

## PhoenixContact_GMSTBV_2,5_11-GF-7,62_1x11_P7.62mm_Vertical_ThreadedFlange [mm]
pads (11):
  rrect12% 2.1x3.6 hole 1.4: 1(0,0)
  rrect100% 2.1x3.6 hole 1.4: 2(7.62,0) 3(15.24,0) 4(22.86,0) 5(30.48,0) 6(38.1,0) 7(45.72,0) 8(53.34,0) 9(60.96,0) 10(68.58,0) 11(76.2,0)
F.SilkS:
  circle w0.254: c82.3,0 r1.9
  circle w0.254: c82.3,0 r1
  circle w0.254: c-6.1,0 r1.9
  circle w0.254: c-6.1,0 r1
  lines w0.254: -9.21,4.1 -7.21,4.1 ; -5.1,4.1 -1,4.1 ; 1,4.1 6.62,4.1 ; 1.987,-2.216 cw(c0,-0.55) -2,-2.2 -3.01,-2.2 -3.01,3.1 79.21,3.1 79.21,-2.2 78.2,-2.2 ; 2,-2.2 5.62,-2.2 ccw(c7.62,-0.55) 9.607,-2.216 ; 8.62,4.1 14.24,4.1 ; 9.62,-2.2 13.24,-2.2 ccw(c15.24,-0.55) 17.227,-2.216 ; 16.24,4.1 21.86,4.1 ; 17.24,-2.2 20.86,-2.2 ccw(c22.86,-0.55) 24.847,-2.216 ; 23.86,4.1 29.48,4.1 ; 24.86,-2.2 28.48,-2.2 ccw(c30.48,-0.55) 32.467,-2.216 ; 31.48,4.1 37.1,4.1 ; 32.48,-2.2 36.1,-2.2 ccw(c38.1,-0.55) 40.087,-2.216 ; 39.1,4.1 44.72,4.1 ; 40.1,-2.2 43.72,-2.2 ccw(c45.72,-0.55) 47.707,-2.216 ; 46.72,4.1 52.34,4.1 ; 47.72,-2.2 51.34,-2.2 ccw(c53.34,-0.55) 55.327,-2.216 ; 54.34,4.1 59.96,4.1 ; 55.34,-2.2 58.96,-2.2 ccw(c60.96,-0.55) 62.947,-2.216 ; 61.96,4.1 67.58,4.1 ; 62.96,-2.2 66.58,-2.2 ccw(c68.58,-0.55) 70.567,-2.216 ; 69.58,4.1 75.2,4.1 ; 70.58,-2.2 74.2,-2.2 ccw(c76.2,-0.55) 78.187,-2.216 ; 77.2,4.1 81.3,4.1 ; 83.41,4.1 85.41,4.1 ; -9.21,-3.91 85.41,-3.91 85.41,4.91 -9.21,4.91 -9.21,-3.91 ; -7.1,3.1 -5.1,3.1 -5.1,4.91 -7.1,4.91 -7.1,3.1 ; -1,3.1 1,3.1 1,4.91 -1,4.91 -1,3.1 ; -0.3,5.71 0,5.11 0.3,5.71 -0.3,5.71 ; 6.62,3.1 8.62,3.1 8.62,4.91 6.62,4.91 6.62,3.1 ; 14.24,3.1 16.24,3.1 16.24,4.91 14.24,4.91 14.24,3.1 ; 21.86,3.1 23.86,3.1 23.86,4.91 21.86,4.91 21.86,3.1 ; 29.48,3.1 31.48,3.1 31.48,4.91 29.48,4.91 29.48,3.1 ; 37.1,3.1 39.1,3.1 39.1,4.91 37.1,4.91 37.1,3.1 ; 44.72,3.1 46.72,3.1 46.72,4.91 44.72,4.91 44.72,3.1 ; 52.34,3.1 54.34,3.1 54.34,4.91 52.34,4.91 52.34,3.1 ; 59.96,3.1 61.96,3.1 61.96,4.91 59.96,4.91 59.96,3.1 ; 67.58,3.1 69.58,3.1 69.58,4.91 67.58,4.91 67.58,3.1 ; 75.2,3.1 77.2,3.1 77.2,4.91 75.2,4.91 75.2,3.1 ; 81.3,3.1 83.3,3.1 83.3,4.91 81.3,4.91 81.3,3.1
Top Assembly:
  lines w0.254: -9.1,-3.8 85.3,-3.8 85.3,4.8 -9.1,4.8 -9.1,-3.8 ; -0.5,3.55 0,2.55 0.5,3.55 -0.5,3.55
  text "'.Designator'" at 34.053,3.26 h1
Top Courtyard:
  lines w0.254: -9.6,-4.3 85.81,-4.3 85.81,5.3 -9.6,5.3 -9.6,-4.3
Top Designator:
  text ".Designator" at 30.487,0.197 h1.52

## PhoenixContact_GMSTBV_2,5_11-GF-7,62_1x11_P7.62mm_Vertical_ThreadedFlange_MountHole [mm]
pads (13):
  rrect12% 2.1x3.6 hole 1.4: 1(0,0)
  rrect100% 2.1x3.6 hole 1.4: 2(7.62,0) 3(15.24,0) 4(22.86,0) 5(30.48,0) 6(38.1,0) 7(45.72,0) 8(53.34,0) 9(60.96,0) 10(68.58,0) 11(76.2,0)
  round 2.4 hole 2.4: Un1(-6.1,0) Un2(82.3,0)
F.SilkS:
  circle w0.254: c82.3,0 r1.9
  circle w0.254: c-6.1,0 r1.9
  lines w0.254: -9.21,4.1 -7.21,4.1 ; -5.1,4.1 -1,4.1 ; 1,4.1 6.62,4.1 ; 1.987,-2.216 cw(c0,-0.55) -2,-2.2 -3.01,-2.2 -3.01,3.1 79.21,3.1 79.21,-2.2 78.2,-2.2 ; 2,-2.2 5.62,-2.2 ccw(c7.62,-0.55) 9.607,-2.216 ; 8.62,4.1 14.24,4.1 ; 9.62,-2.2 13.24,-2.2 ccw(c15.24,-0.55) 17.227,-2.216 ; 16.24,4.1 21.86,4.1 ; 17.24,-2.2 20.86,-2.2 ccw(c22.86,-0.55) 24.847,-2.216 ; 23.86,4.1 29.48,4.1 ; 24.86,-2.2 28.48,-2.2 ccw(c30.48,-0.55) 32.467,-2.216 ; 31.48,4.1 37.1,4.1 ; 32.48,-2.2 36.1,-2.2 ccw(c38.1,-0.55) 40.087,-2.216 ; 39.1,4.1 44.72,4.1 ; 40.1,-2.2 43.72,-2.2 ccw(c45.72,-0.55) 47.707,-2.216 ; 46.72,4.1 52.34,4.1 ; 47.72,-2.2 51.34,-2.2 ccw(c53.34,-0.55) 55.327,-2.216 ; 54.34,4.1 59.96,4.1 ; 55.34,-2.2 58.96,-2.2 ccw(c60.96,-0.55) 62.947,-2.216 ; 61.96,4.1 67.58,4.1 ; 62.96,-2.2 66.58,-2.2 ccw(c68.58,-0.55) 70.567,-2.216 ; 69.58,4.1 75.2,4.1 ; 70.58,-2.2 74.2,-2.2 ccw(c76.2,-0.55) 78.187,-2.216 ; 77.2,4.1 81.3,4.1 ; 83.41,4.1 85.41,4.1 ; -9.21,-3.91 85.41,-3.91 85.41,4.91 -9.21,4.91 -9.21,-3.91 ; -7.1,3.1 -5.1,3.1 -5.1,4.91 -7.1,4.91 -7.1,3.1 ; -1,3.1 1,3.1 1,4.91 -1,4.91 -1,3.1 ; -0.3,5.71 0,5.11 0.3,5.71 -0.3,5.71 ; 6.62,3.1 8.62,3.1 8.62,4.91 6.62,4.91 6.62,3.1 ; 14.24,3.1 16.24,3.1 16.24,4.91 14.24,4.91 14.24,3.1 ; 21.86,3.1 23.86,3.1 23.86,4.91 21.86,4.91 21.86,3.1 ; 29.48,3.1 31.48,3.1 31.48,4.91 29.48,4.91 29.48,3.1 ; 37.1,3.1 39.1,3.1 39.1,4.91 37.1,4.91 37.1,3.1 ; 44.72,3.1 46.72,3.1 46.72,4.91 44.72,4.91 44.72,3.1 ; 52.34,3.1 54.34,3.1 54.34,4.91 52.34,4.91 52.34,3.1 ; 59.96,3.1 61.96,3.1 61.96,4.91 59.96,4.91 59.96,3.1 ; 67.58,3.1 69.58,3.1 69.58,4.91 67.58,4.91 67.58,3.1 ; 75.2,3.1 77.2,3.1 77.2,4.91 75.2,4.91 75.2,3.1 ; 81.3,3.1 83.3,3.1 83.3,4.91 81.3,4.91 81.3,3.1
B.SilkS:
  circle w0.254: c82.3,0 r2.21
  circle w0.254: c-6.1,0 r2.21
Top Assembly:
  lines w0.254: -9.1,-3.8 85.3,-3.8 85.3,4.8 -9.1,4.8 -9.1,-3.8 ; -0.5,3.55 0,2.55 0.5,3.55 -0.5,3.55
  text "'.Designator'" at 34.053,3.26 h1
Bottom Assembly:
  circle w0.254: c82.3,0 r2.1
  circle w0.254: c-6.1,0 r2.1
Top Courtyard:
  lines w0.254: -9.6,-4.3 85.81,-4.3 85.81,5.3 -9.6,5.3 -9.6,-4.3
Bottom Courtyard:
  circle w0.254: c82.3,0 r2.6
  circle w0.254: c-6.1,0 r2.6
Top Designator:
  text ".Designator" at 30.487,0.197 h1.52